# Altium schematic symbol library ANT_2450AT18A100E.Schlib: 1 symbol
Pins are listed as number, name and electrical type; pins without a type are passive.

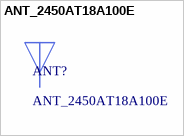
[diagram p0: symbol ANT_2450AT18A100E]

## ANT_2450AT18A100E
designator ANT?
BLE antenna
pins: 1